# Altium footprint library OPA455IDDA.PcbLib: 8 footprints
Each footprint in its own frame and in the unit in brackets; x right, y up, seen from the top. Pads: shape width x height; smd on the part's side, far side on the other; paste and mask are expansions set on the pad; w line width, h text height; cw(c..) or ccw(c..) is an arc to the next point about the centre after c.
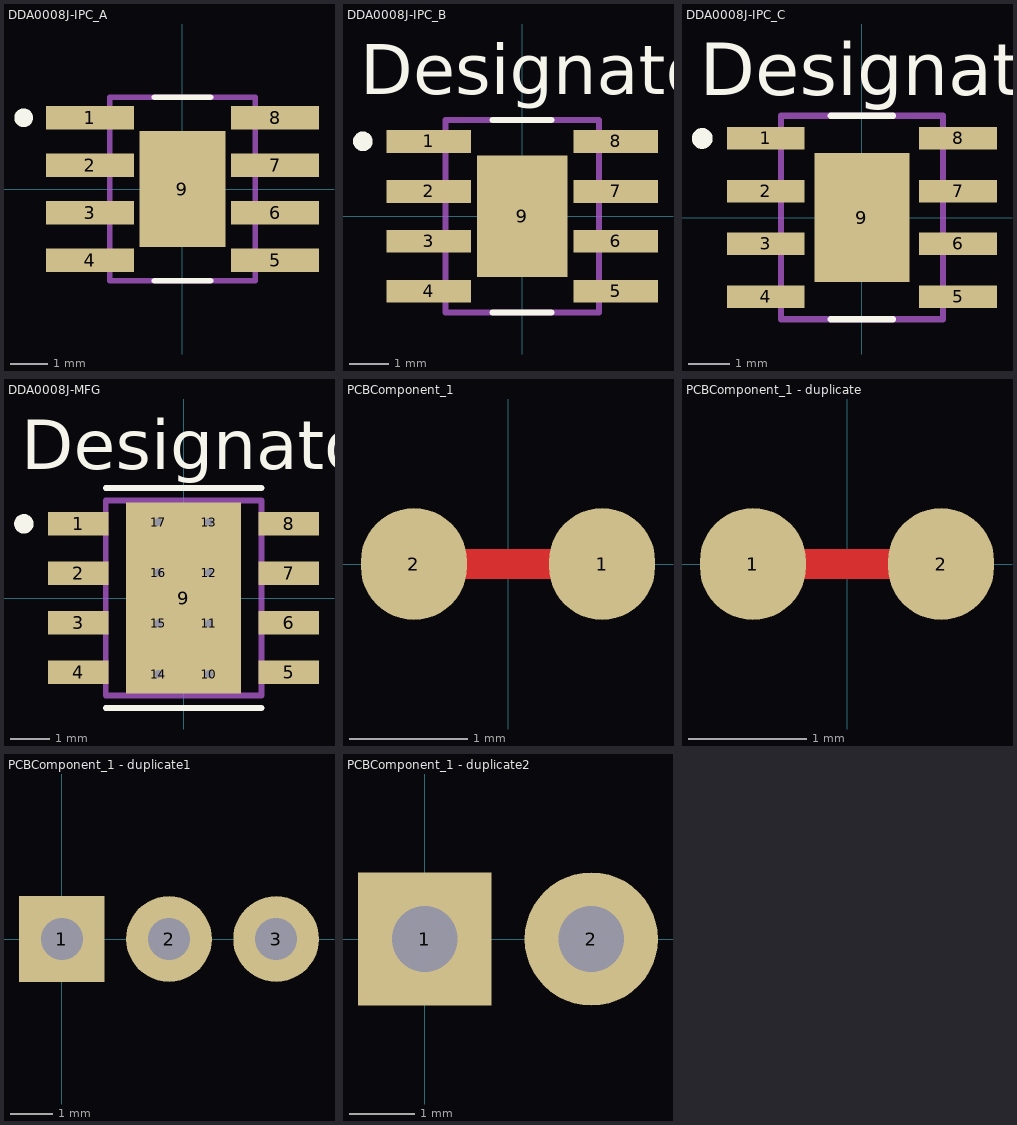
[diagram p0: the footprints below, top view; thin cyan lines are the x and y axes]

## DDA0008J-IPC_A [mm]
pads (9):
  rect 2.353x0.622 smd paste+0 mask+0: 1(-2.477,1.905) 2(-2.477,0.635) 3(-2.477,-0.635) 4(-2.477,-1.905) 5(2.477,-1.905) 6(2.477,-0.635) 7(2.477,0.635) 8(2.477,1.905)
  rect 2.3x3.1 smd paste-1.537 mask+0: 9(0,0)
Top Overlay:
  circle w0.25: c-4.25,1.905 r0.125
  lines w0.15: -0.75,-2.45 0.75,-2.45 ; -0.75,2.45 0.75,2.45
Top Paste:
  region: -0.668,1.068 -0.668,-1.068 0.668,-1.068 0.668,1.068
Mechanical 13:
  lines w0.15: -1.95,-2.45 1.95,-2.45 1.95,2.45 -1.95,2.45 -1.95,-2.45

## DDA0008J-IPC_B [mm]
pads (9):
  rect 2.153x0.582 smd paste+0 mask+0: 1(-2.377,1.905) 2(-2.377,0.635) 3(-2.377,-0.635) 4(-2.377,-1.905) 5(2.377,-1.905) 6(2.377,-0.635) 7(2.377,0.635) 8(2.377,1.905)
  rect 2.3x3.1 smd paste-1.537 mask+0: 9(0,0)
Top Overlay:
  circle w0.25: c-4.05,1.905 r0.125
  lines w0.15: -0.75,-2.45 0.75,-2.45 ; -0.75,2.45 0.75,2.45
  text "Designator9" at -4.115,3.099 h1.27
  text ".Designator" at -3.492,-0.635 h1.27
Top Paste:
  region: -0.668,1.068 -0.668,-1.068 0.668,-1.068 0.668,1.068
Mechanical 13:
  lines w0.15: -1.95,-2.45 -1.95,2.45 1.95,2.45 1.95,-2.45 -1.95,-2.45
  text ".Designator" at -3.492,-0.635 h1.27

## DDA0008J-IPC_C [mm]
pads (9):
  rect 1.874x0.542 smd paste+0 mask+0: 1(-2.316,1.905) 2(-2.316,0.635) 3(-2.316,-0.635) 4(-2.316,-1.905) 5(2.316,-1.905) 6(2.316,-0.635) 7(2.316,0.635) 8(2.316,1.905)
  rect 2.3x3.1 smd paste-1.537 mask+0: 9(0,0)
Top Overlay:
  circle w0.25: c-3.85,1.905 r0.125
  lines w0.15: -0.75,-2.45 0.75,-2.45 ; -0.75,2.45 0.75,2.45
  text ".Designator" at -3.492,-0.635 h1.27
  text "Designator9" at -3.912,2.946 h1.27
Top Paste:
  region: -0.668,1.068 -0.668,-1.068 0.668,-1.068 0.668,1.068
Mechanical 13:
  lines w0.15: -1.95,-2.45 1.95,-2.45 1.95,2.45 -1.95,2.45 -1.95,-2.45
  text ".Designator" at -3.492,-0.635 h1.27

## DDA0008J-MFG [mm]
pads (17):
  rect 1.55x0.6 smd paste+0 mask+0: 1(-2.7,1.905) 2(-2.7,0.635) 3(-2.7,-0.635) 4(-2.7,-1.905) 5(2.7,-1.905) 6(2.7,-0.635) 7(2.7,0.635) 8(2.7,1.905)
  rect 2.95x4.9 smd paste-2.437 mask-2.438: 9(0,0)
  round 0.5 hole 0.203 paste-2539.97 mask+0: 10(0.65,-1.95) 11(0.65,-0.65) 12(0.65,0.65) 13(0.65,1.95) 14(-0.65,-1.95) 15(-0.65,-0.65) 16(-0.65,0.65) 17(-0.65,1.95)
Top Overlay:
  circle w0.25: c-4.1,1.905 r0.125
  lines w0.15: -2,-2.825 2,-2.825 ; -2,2.825 2,2.825
  text ".Designator" at -3.492,-0.635 h1.27
  text "Designator9" at -4.166,3.302 h1.27
Top Paste:
  region: -1.3,-1.5 -1.3,1.5 -1.25,1.55 1.25,1.55 1.3,1.5 1.3,-1.5 1.25,-1.55 -1.25,-1.55
Top Solder:
  region: -1.3,-1.5 -1.3,1.5 -1.25,1.55 1.25,1.55 1.3,1.5 1.3,-1.5 1.25,-1.55 -1.25,-1.55
Mechanical 13:
  lines w0.15: -2,-2.5 2,-2.5 2,2.5 -2,2.5 -2,-2.5
  text ".Designator" at -3.492,-0.635 h1.27

## PCBComponent_1 [mm]
pads (2):
  oval 0.9x0.95 all layers, no hole: 1(0.8,0) 2(-0.8,0)
Top Layer:
  lines w0.254: -0.8,0 0.8,0

## PCBComponent_1 - duplicate [mm]
pads (2):
  oval 0.9x0.95 all layers, no hole: 1(-0.8,0) 2(0.8,0)
Top Layer:
  lines w0.254: -0.8,0 0.8,0

## PCBComponent_1 - duplicate1 [mil]
pads (3):
  rect 80x80 hole 39.37: 1(0,0)
  round 80 hole 39.37: 2(100,0) 3(200,0)

## PCBComponent_1 - duplicate2 [mil]
pads (2):
  rect 80x80 hole 39.37: 1(0,0)
  round 80 hole 39.37: 2(100,0)